# EAGLE library part CC3000 (library Pygmy)
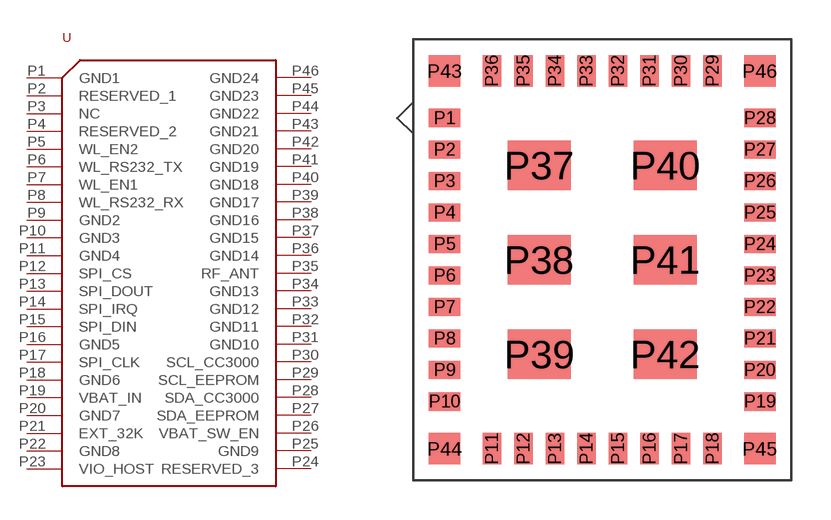
[diagram p91: symbol with the pads of CC3000; footprint CC3000]

Designator prefix U

## CC3000  [CC3000]
P1  GND1
P2  RESERVED_1
P3  NC
P4  RESERVED_2
P5  WL_EN2
P6  WL_RS232_TX
P7  WL_EN1
P8  WL_RS232_RX
P9  GND2
P10  GND3
P11  GND4
P12  SPI_CS
P13  SPI_DOUT
P14  SPI_IRQ
P15  SPI_DIN
P16  GND5
P17  SPI_CLK
P18  GND6
P19  VBAT_IN
P20  GND7
P21  EXT_32K
P22  GND8
P23  VIO_HOST
P24  RESERVED_3
P25  GND9
P26  VBAT_SW_EN
P27  SDA_EEPROM
P28  SDA_CC3000
P29  SCL_EEPROM
P30  SCL_CC3000
P31  GND10
P32  GND11
P33  GND12
P34  GND13
P35  RF_ANT
P36  GND14
P37  GND15
P38  GND16
P39  GND17
P40  GND18
P41  GND19
P42  GND20
P43  GND21
P44  GND22
P45  GND23
P46  GND24

## Footprint CC3000 (pad centres in mm)
smd 1.2 x 0.7: P1 0,12.6; P2 0,11.4; P3 0,10.2; P4 0,9; P5 0,7.8; P6 0,6.6; P7 0,5.4; P8 0,4.2; P9 0,3; P10 0,1.8; P19 12,1.8; P20 12,3; P21 12,4.2; P22 12,5.4; P23 12,6.6; P24 12,7.8; P25 12,9; P26 12,10.2; P27 12,11.4; P28 12,12.6
smd 0.7 x 1.2: P11 1.8,0; P12 3,0; P13 4.2,0; P14 5.4,0; P15 6.6,0; P16 7.8,0; P17 9,0; P18 10.2,0; P29 10.2,14.4; P30 9,14.4; P31 7.8,14.4; P32 6.6,14.4; P33 5.4,14.4; P34 4.2,14.4; P35 3,14.4; P36 1.8,14.4
smd 2.4 x 1.9: P37 3.6,10.8; P38 3.6,7.2; P39 3.6,3.6; P40 8.4,10.8; P41 8.4,7.2; P42 8.4,3.6
smd 1.2 x 1.2: P43 0,14.4; P44 0,0; P45 12,0; P46 12,14.4